# Altium schematic symbol library STM32F0-Series.SchLib: 1 symbol
Pins are listed as number, name and electrical type; pins without a type are passive.

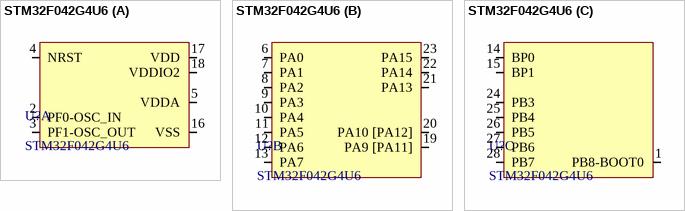
[diagram p0: symbol STM32F042G4U6]

## STM32F042G4U6
designator U?
ARM® Cortex®-M0 series Microcontroller IC 32-Bit 48MHz 16KB (16K x 8) FLASH 28-UFQFPN (4x4); Type: STM32F042G4U6; Supplier 1: Digi-Key; Supplier Part Number 1: 497-17830-ND
footprint UFQFPN28_0.5_C (QFN, 28-Leads, Body 4.00x4.00mm, Pitch 0.50mm, IPC High Density)
part A pins: 2 PF0-OSC_IN, 3 PF1-OSC_OUT, 4 NRST, 5 VDDA, 16 VSS, 17 VDD, 18 VDDIO2
part B pins: 6 PA0, 7 PA1, 8 PA2, 9 PA3, 10 PA4, 11 PA5, 12 PA6, 13 PA7, 19 PA9 [PA11], 20 PA10 [PA12], 21 PA13, 22 PA14, 23 PA15
part C pins: 1 PB8-BOOT0, 14 BP0, 15 BP1, 24 PB3, 25 PB4, 26 PB5, 27 PB6, 28 PB7